# Altium footprint library VEGA_ARIES_V2.PcbLib: 1 footprints
Each footprint in its own frame and in the unit in brackets; x right, y up, seen from the top. Pads: shape width x height; smd on the part's side, far side on the other; paste and mask are expansions set on the pad; w line width, h text height; cw(c..) or ccw(c..) is an arc to the next point about the centre after c.
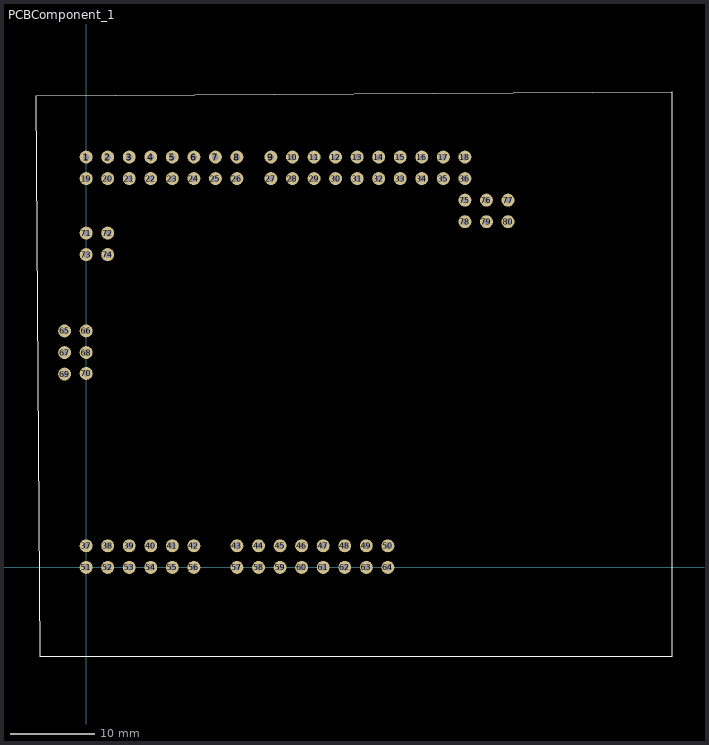
[diagram p0: the footprint, top view; thin cyan lines are the x and y axes]

## PCBComponent_1 [mil]
pads (80):
  round 60 hole 30: 1(0,1903.94) 2(100,1903.94) 3(200,1903.94) 4(300,1903.94) 5(400,1903.94) 6(500,1903.94) 7(600,1903.94) 8(700,1903.94) 9(857.48,1903.94) 10(957.48,1903.94) 11(1057.48,1903.94) 12(1157.48,1903.94) 13(1257.48,1903.94) 14(1357.48,1903.94) 15(1457.48,1903.94) 16(1557.48,1903.94) 17(1657.48,1903.94) 18(1757.48,1903.94) 19(0,1803.94) 20(100,1803.94) 21(200,1803.94) 22(300,1803.94) 23(400,1803.94) 24(500,1803.94) 25(600,1803.94) 26(700,1803.94) 27(857.48,1803.94) 28(957.48,1803.94) 29(1057.48,1803.94) 30(1157.48,1803.94) 31(1257.48,1803.94) 32(1357.48,1803.94) 33(1457.48,1803.94) 34(1557.48,1803.94) 35(1657.48,1803.94) 36(1757.48,1803.94) 37(0,100) 38(100,100) 39(200,100) 40(300,100) 41(400,100) 42(500,100) 43(700,100) 44(800,100) 45(900,100) 46(1000,100) 47(1100,100) 48(1200,100) 49(1300,100) 50(1400,100) 51(0,0) 52(100,0) 53(200,0) 54(300,0) 55(400,0) 56(500,0) 57(700,0) 58(800,0) 59(900,0) 60(1000,0) 61(1100,0) 62(1200,0) 63(1300,0) 64(1400,0) 65(-100,1096.85) 66(0,1096.85) 67(-100,996.85) 68(0,996.85) 69(-100,896.85) 70(0,900) 71(0,1551.18) 72(100,1551.18) 73(0,1451.18) 74(100,1451.18) 75(1757.48,1703.94) 76(1857.48,1703.94) 77(1957.48,1703.94) 78(1757.48,1603.94) 79(1857.48,1603.94) 80(1957.48,1603.94)
Top Overlay:
  lines w3.94: -233.42,2188.46 2719.28,2206.68 2719.28,-412.06 -215.78,-412.06 -233.42,2188.46